# Altium footprint library MM32F3277核心板整体封装.PcbLib: 1 footprints
Each footprint in its own frame and in the unit in brackets; x right, y up, seen from the top. Pads: shape width x height; smd on the part's side, far side on the other; paste and mask are expansions set on the pad; w line width, h text height; cw(c..) or ccw(c..) is an arc to the next point about the centre after c.
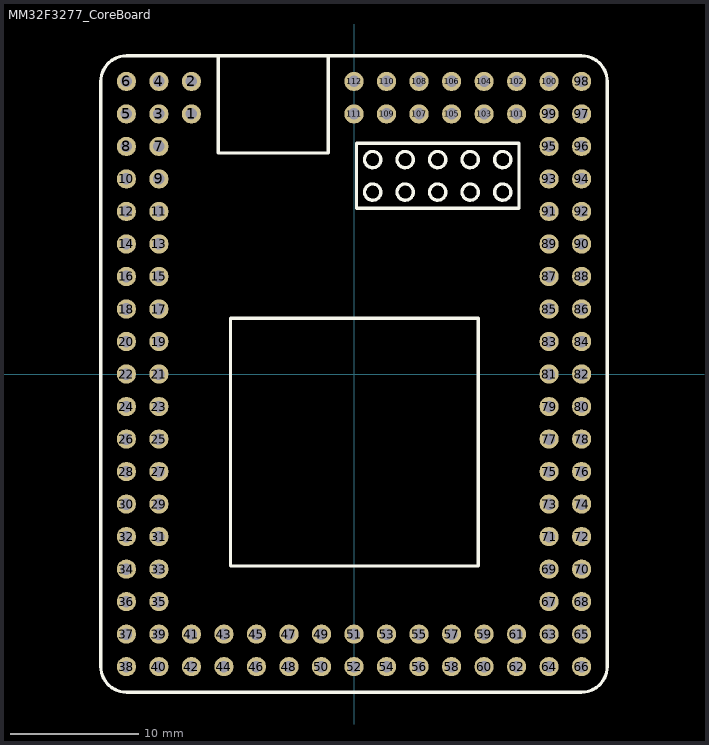
[diagram p0: the footprint, top view; thin cyan lines are the x and y axes]

## MM32F3277_CoreBoard [mm] "逐飞科技MM32F3277核心板"
pads (112):
  round 1.5 hole 0.9: 1(-12.7,20.32) 2(-12.7,22.86) 3(-15.24,20.32) 4(-15.24,22.86) 5(-17.78,20.32) 6(-17.78,22.86) 7(-15.24,17.78) 8(-17.78,17.78) 9(-15.24,15.24) 10(-17.78,15.24) 11(-15.24,12.7) 12(-17.78,12.7) 13(-15.24,10.16) 14(-17.78,10.16) 15(-15.24,7.62) 16(-17.78,7.62) 17(-15.24,5.08) 18(-17.78,5.08) 19(-15.24,2.54) 20(-17.78,2.54) 21(-15.24,0) 22(-17.78,0) 23(-15.24,-2.54) 24(-17.78,-2.54) 25(-15.24,-5.08) 26(-17.78,-5.08) 27(-15.24,-7.62) 28(-17.78,-7.62) 29(-15.24,-10.16) 30(-17.78,-10.16) 31(-15.24,-12.7) 32(-17.78,-12.7) 33(-15.24,-15.24) 34(-17.78,-15.24) 35(-15.24,-17.78) 36(-17.78,-17.78) 37(-17.78,-20.32) 38(-17.78,-22.86) 39(-15.24,-20.32) 40(-15.24,-22.86) 41(-12.7,-20.32) 42(-12.7,-22.86) 43(-10.16,-20.32) 44(-10.16,-22.86) 45(-7.62,-20.32) 46(-7.62,-22.86) 47(-5.08,-20.32) 48(-5.08,-22.86) 49(-2.54,-20.32) 50(-2.54,-22.86) 51(0,-20.32) 52(0,-22.86) 53(2.54,-20.32) 54(2.54,-22.86) 55(5.08,-20.32) 56(5.08,-22.86) 57(7.62,-20.32) 58(7.62,-22.86) 59(10.16,-20.32) 60(10.16,-22.86) 61(12.7,-20.32) 62(12.7,-22.86) 63(15.24,-20.32) 64(15.24,-22.86) 65(17.78,-20.32) 66(17.78,-22.86) 67(15.24,-17.78) 68(17.78,-17.78) 69(15.24,-15.24) 70(17.78,-15.24) 71(15.24,-12.7) 72(17.78,-12.7) 73(15.24,-10.16) 74(17.78,-10.16) 75(15.24,-7.62) 76(17.78,-7.62) 77(15.24,-5.08) 78(17.78,-5.08) 79(15.24,-2.54) 80(17.78,-2.54) 81(15.24,0) 82(17.78,0) 83(15.24,2.54) 84(17.78,2.54) 85(15.24,5.08) 86(17.78,5.08) 87(15.24,7.62) 88(17.78,7.62) 89(15.24,10.16) 90(17.78,10.16) 91(15.24,12.7) 92(17.78,12.7) 93(15.24,15.24) 94(17.78,15.24) 95(15.24,17.78) 96(17.78,17.78) 97(17.78,20.32) 98(17.78,22.86) 99(15.24,20.32) 100(15.24,22.86) 101(12.7,20.32) 102(12.7,22.86) 103(10.16,20.32) 104(10.16,22.86) 105(7.62,20.32) 106(7.62,22.86) 107(5.08,20.32) 108(5.08,22.86) 109(2.54,20.32) 110(2.54,22.86) 111(0,20.32) 112(0,22.86)
Top Overlay:
  circle w0.254: c1.46,14.213 r0.635
  circle w0.254: c1.46,16.753 r0.635
  circle w0.254: c4,16.753 r0.635
  circle w0.254: c4,14.213 r0.635
  circle w0.254: c6.54,14.213 r0.635
  circle w0.254: c6.54,16.753 r0.635
  circle w0.254: c9.08,16.753 r0.635
  circle w0.254: c9.08,14.213 r0.635
  circle w0.254: c11.62,14.213 r0.635
  circle w0.254: c11.62,16.753 r0.635
  lines w0.254: -19.78,-22.856 ccw(c-17.78,-22.856) -17.78,-24.856 17.78,-24.856 ccw(c17.78,-22.856) 19.78,-22.856 19.78,22.86 ccw(c17.78,22.86) 17.78,24.86 -17.78,24.86 ccw(c-17.78,22.86) -19.78,22.86 -19.78,-22.856 ; -10.605,17.27 -2.005,17.27 -2.005,24.85 -10.605,24.85 -10.605,17.27 ; -9.657,-14.989 9.697,-14.989 9.697,4.365 -9.657,4.365 -9.657,-14.989 ; 0.19,12.943 0.19,18.023 12.89,18.023 12.89,12.943 0.19,12.943